# Altium integrated library ATMEGA32U4-AUR.IntLib: 1 symbol
Pins are listed as number, name and electrical type; pins without a type are passive.

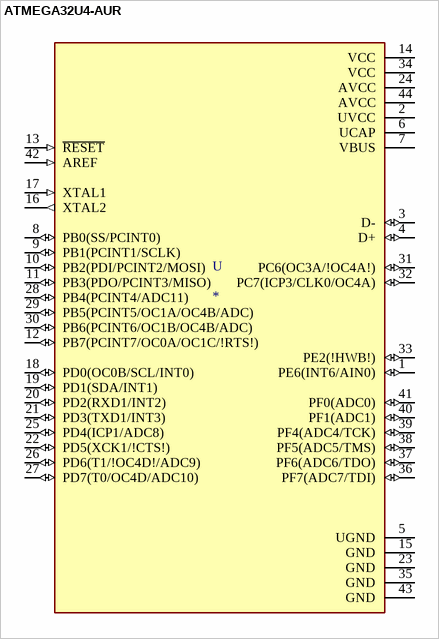
[diagram p0: symbol ATMEGA32U4-AUR]

## ATMEGA32U4-AUR
designator U
AVR AVRÂ® ATmega Microcontroller IC 8-Bit 16MHz 32KB _16K x 16_ FLASH 44-TQFP _10x10_; MP: ATMEGA32U4-AUR; MF: Microchip; Digi-Key_Purchase_URL: https://www.digikey.ph/product-detail/en/microchip-technology/ATMEGA32U4-AUR/ATMEGA32U4-AURCT-ND/3440960?utm_source=snapeda&utm_medium=aggregator&utm_campaign=symbol; SnapEDA_Link: https://www.snapeda.com/parts/ATMEGA32U4-AUR/Microchip/view-part/1737151/?ref=snap; Value: *; Digi-Key_Part_Number: ATMEGA32U4-AURCT-ND; Package: TQFP-44 Microchip
footprint QFP80P1200X1200X120-44N
pins: 1 PE6(INT6/AIN0) (io), 2 UVCC (power), 3 D- (io), 4 D+ (io), 5 UGND (power), 6 UCAP (power), 7 VBUS (power), 8 PB0(SS/PCINT0) (io), 9 PB1(PCINT1/SCLK) (io), 10 PB2(PDI/PCINT2/MOSI) (io), 11 PB3(PDO/PCINT3/MISO) (io), 12 PB7(PCINT7/OC0A/OC1C/!RTS!) (io), 13 ~{RESET} (in), 14 VCC (power), 15 GND (power), 16 XTAL2 (out), 17 XTAL1 (in), 18 PD0(OC0B/SCL/INT0) (io), 19 PD1(SDA/INT1) (io), 20 PD2(RXD1/INT2) (io), 21 PD3(TXD1/INT3) (io), 22 PD5(XCK1/!CTS!) (io), 23 GND (power), 24 AVCC (power), 25 PD4(ICP1/ADC8) (io), 26 PD6(T1/!OC4D!/ADC9) (io), 27 PD7(T0/OC4D/ADC10) (io), 28 PB4(PCINT4/ADC11) (io), 29 PB5(PCINT5/OC1A/OC4B/ADC) (io), 30 PB6(PCINT6/OC1B/OC4B/ADC) (io), 31 PC6(OC3A/!OC4A!) (io), 32 PC7(ICP3/CLK0/OC4A) (io), 33 PE2(!HWB!) (io), 34 VCC (power), 35 GND (power), 36 PF7(ADC7/TDI) (io), 37 PF6(ADC6/TDO) (io), 38 PF5(ADC5/TMS) (io), 39 PF4(ADC4/TCK) (io), 40 PF1(ADC1) (io), 41 PF0(ADC0) (io), 42 AREF (in), 43 GND (power), 44 AVCC (power)